# Altium integrated library Integrated Circuits.IntLib: 46 symbols
Pins are listed as number, name and electrical type; pins without a type are passive.

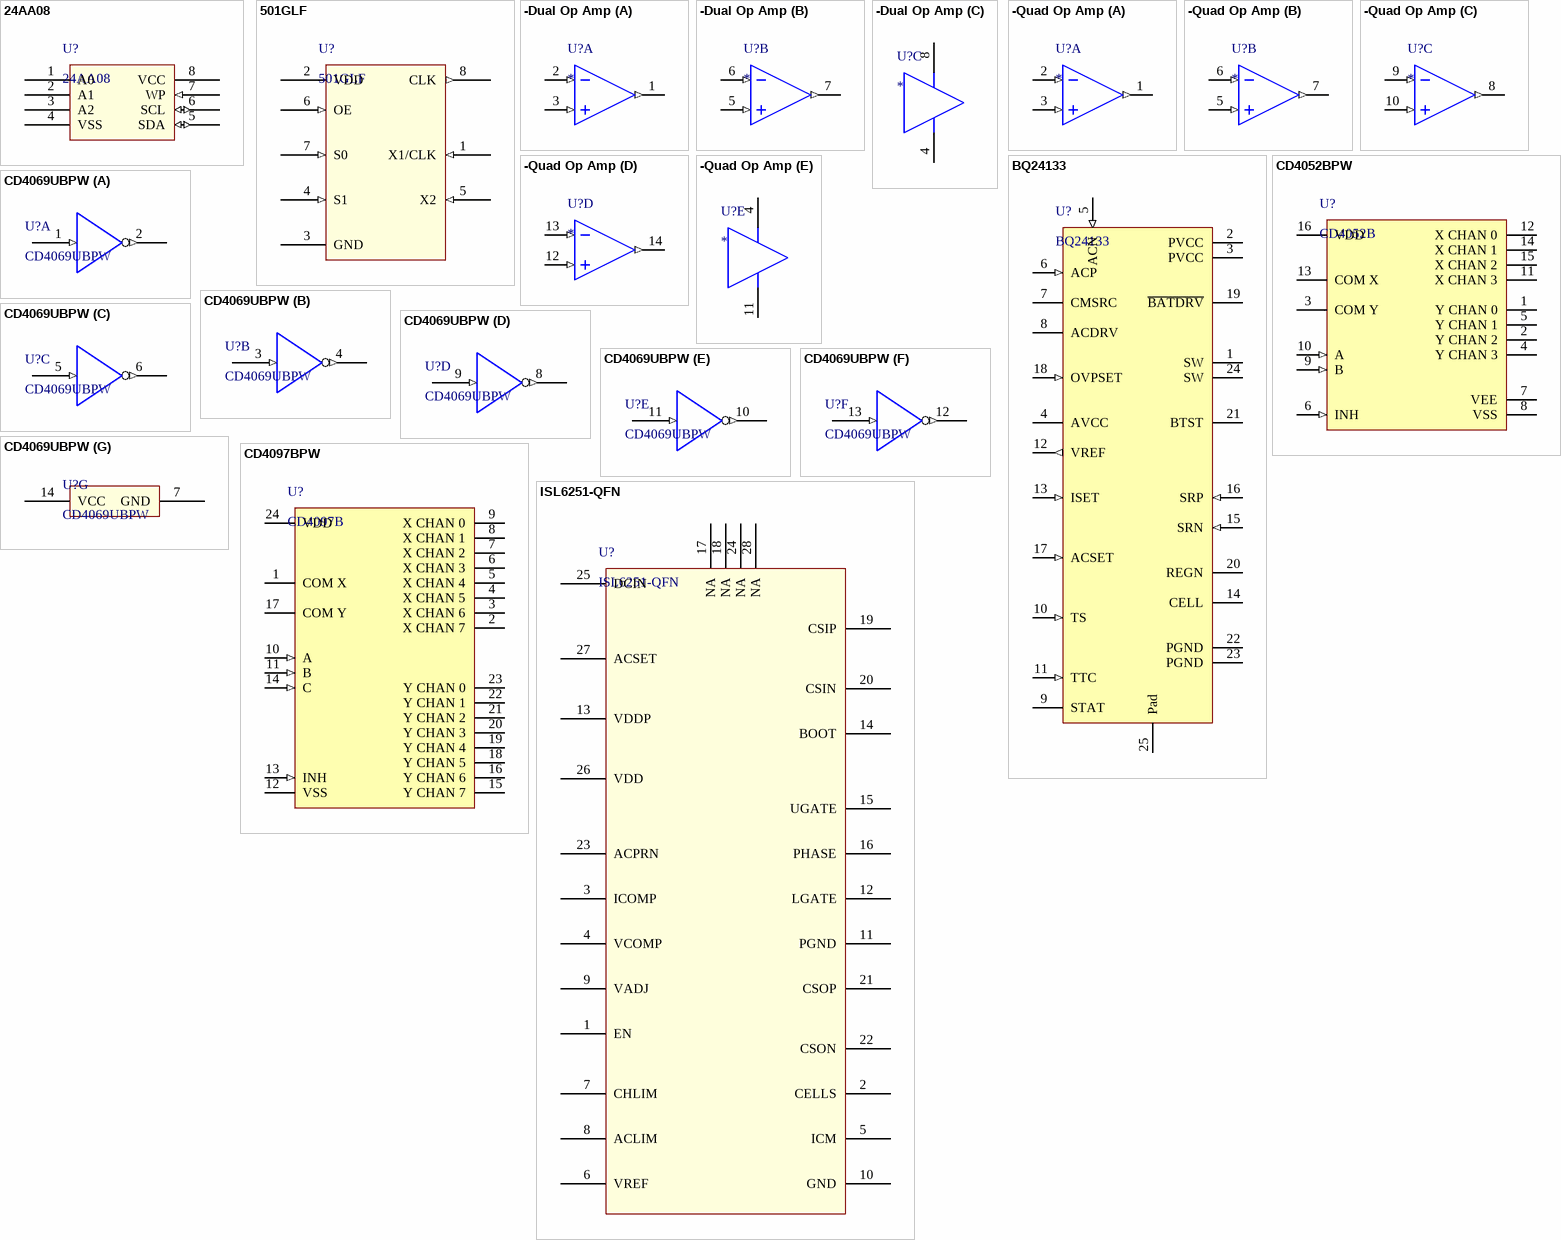
[diagram p0: symbols 24AA08 to ISL6251-QFN]

## 24AA08
designator U?
I2C EEPROM; Value: 24AA08; Supplier 1: Mouser; Supplier Part Number 1: 579-24AA08/SN
footprint SOIC127P600X175-8N (SOIC, 8-Leads, Body 4.95x3.90mm, Pitch 1.27mm, IPC Medium Density)
pins: 1 A0 "Not connected. Leave floating or tie to Vss or Vcc.", 2 A1 "Not connected. Leave floating or tie to Vss or Vcc.", 3 A2 "Not connected. Leave floating or tie to Vss or Vcc.", 4 VSS (power) "Ground", 5 SDA (io) "I2C Data", 6 SCL (io) "I2C Clock", 7 WP (in) "Write Protect Input. Tie to Vss for normal R/W", 8 VCC (power) "1.7V to 5.5V"

## 501GLF
designator U?
PLL Clock Multiplier; Value: 501GLF; Supplier 1: Mouser; Supplier Part Number 1: 972-501GLF
footprint SOIC127P600X175-8N (SOIC, 8-Leads, Body 4.95x3.90mm, Pitch 1.27mm, IPC Medium Density)
pins: 1 X1/CLK (in) "Crystal or clock input", 2 VDD (power) "+3.3V or 5V", 3 GND (power), 4 S1 (in) "Multiplier Select 1", 5 X2 (in) "Crystal. Leave unconnected for clock input", 6 OE (in) "Output Enable", 7 S0 (in) "Multiplier Select 0", 8 CLK (out) "Clock output"

## -Dual Op Amp
designator U?
Value: *
footprint SOIC127P600X175-8N (SOIC, 8-Leads, Body 4.95x3.90mm, Pitch 1.27mm, IPC Medium Density)
footprint SOP65P640X120-8N (TSOP, 8-Leads, Body 3.00x4.40mm, Pitch 0.65mm, IPC Medium Density)
part A pins: 1 OUT1 (out), 2 IN1- (in), 3 IN1+ (in)
part B pins: 5 IN2+ (in), 6 IN2- (in), 7 OUT2 (out)
part C pins: 4 VCC-, 8 VCC+

## -Quad Op Amp
designator U?
Value: *
footprint SOIC127P600X175-14N (SOIC, 14-Leads, Body 8.63x3.90mm, Pitch 1.27mm, IPC Medium Density)
footprint SOP65P640X120-14N (TSOP, 14-Leads, Body 5.00x4.40mm, Pitch 0.65mm, IPC Medium Density)
part A pins: 1 OUT1 (out), 2 IN1- (in), 3 IN1+ (in)
part B pins: 5 IN2+ (in), 6 IN2- (in), 7 OUT2 (out)
part C pins: 8 OUT3 (out), 9 IN3- (in), 10 IN3+ (in)
part D pins: 12 IN4+ (in), 13 IN4- (in), 14 OUT4 (out)
part E pins: 4 VCC+ (power), 11 VCC- (power)

## BQ24133
designator U?
Switch Mode Battery Charger; Value: BQ24133; Supplier 1: Mouser; Supplier Part Number 1: 595-BQ24133RGYR
footprint RGY24-3100X2050TP (QFN, 24-Leads, Body 5.5x3.5mm, Pitch 0.5mm, Thermal Pad 3.1x2.05mm, TI Recommended)
pins: 1 SW (power) "Switching node, charge current output inductor connection. Connect the 0.047-uF bootstrap capacitor from SW to BTST.", 2 PVCC (power) "Charger input voltage. Connect at least 10-uF ceramic capacitor from PVCC to PGND and place it as close as possible to IC", 3 PVCC (power) "Charger input voltage. Connect at least 10-uF ceramic capacitor from PVCC to PGND and place it as close as possible to IC", 4 AVCC (power) "IC power positive supply. Place a 1-uF ceramic capacitor from AVCC to AGND and place it as close as possible to IC. Place a 10-ohm resistor from input side to AVCC pin to filter the noise. For 5V input, a 5-ohm resistor is (See Datasheet)", 5 ACN (in) "Adapter current sense resistor negative input. A 0.1-uF ceramic capacitor is placed from ACN to ACP to provide differential-mode filtering. An optional 0.1-uF ceramic capacitor is placed from ACN pin to AGND for common-mode (See Datasheet)", 6 ACP (in) "Adapter current sense resistor positive input. A 0.1-uF ceramic capacitor is placed from ACN to ACP to provide differential-mode filtering. A 0.1-uF ceramic capacitor is placed from ACP pin to AGND for common-mode filtering.", 7 CMSRC "Connect to common source of N-channel ACFET and reverse blocking MOSFET (RBFET). Place 4-kohm resistor from CMSRC pin to the common source of ACFET and RBFET to control the turn-on speed. The resistance between ACDRV and (See Datasheet)", 8 ACDRV "AC adapter to system switch driver output. Connect to 4-kohm resistor then to the gate of the ACFET N-channel power MOSFET and the reverse conduction blocking N-channel power MOSFET. Connect both FETs as common-source. The (See Datasheet)", 9 STAT (hiz) "Open-drain charge status pin with 10-k ohm pull up to power rail. The STAT pin can be used to drive LED or communicate with the host processor. It indicates various charger operations: LOW when charge in progress. HIGH when (See Datasheet)", 10 TS (in) "Temperature qualification voltage input. Connect a negative temperature coefficient thermistor. Program the hot and cold temperature window with a resistor divider from VREF to TS to AGND. The temperature qualification (See Datasheet)", 11 TTC (in) "Safety Timer and termination control. Connect a capacitor from this node to AGND to set the fast charge safety timer(5.6min/nF). Pre-charge timer is internally fixed to 30 minutes. Pull the TTC to LOW to disable the charge (See Datasheet)", 12 VREF (out) "3.3V reference voltage output. Place a 1-uF ceramic capacitor from VREF to AGND pin close to the IC. This voltage could be used for programming ISET and ACSET and TS pins. It may also serve as the pull-up rail of STAT pin (See Datasheet)", 13 ISET (in) "Fast charge current set point. Use a voltage divider from VREF to ISET to AGND to set the fast charge current: ICHG=VISET/(20*RSR) The pre-charge and termination current is internally as one tenth of the charge current. The (See Datasheet)", 14 CELL "Cell selection pin. Set CELL pin LOW for 1-cell, Float for 2-cell (0.8V-1.8V), and HIGH for 3-cell with a fixed 4.2V per cell.", 15 SRN (in) "Charge current sense resistor negative input. A 0.1-uF ceramic capacitor is placed from SRN to SRP to provide differential-mode filtering. A 0.1-uF ceramic capacitor is placed from SRN pin to AGND for common-mode filtering.", 16 SRP (in) "Charge current sense resistor, positive input. A 0.1-uF ceramic capacitor is placed from SRN to SRP to provide differential-mode filtering. A 0.1-uF ceramic capacitor is placed from SRP pin to AGND for common-mode filtering.", 17 ACSET (in) "Input current set point. Use a voltage divider from VREF to ACSET to AGND to set this value:IDPM=VACSET/(20*RAC)", 18 OVPSET (in) "Valid input voltage set point. Use a voltage divider from input to OVPSET to AGND to set this voltage. The voltage above internal 1.6V reference indicates input over-voltage, and the voltage below internal 0.5V reference (See Datasheet)", 19 ~{BATDRV} "Battery discharge MOSFET gate driver output. Connect to 1kohm resistor to the gate of the BATFET P-channel power MOSFET. Connect the source of the BATFET to the system load voltage node. Connect the drain of the BATFET to (See Datasheet)", 20 REGN (power) "PWM low side driver positive 6V supply output. Connect a 1-uF ceramic capacitor from REGN to PGND pin, close to the IC. Generate high-side driver bootstrap voltage by integrated diode from REGN to BTST", 21 BTST (power) "PWM high side driver positive supply. Connect the 0.047-uF bootstrap capacitor from SW to BTST.", 22 PGND (power) "Power ground. Ground connection for high-current power converter node. On PCB layout, connect directly to ground connection of input and output capacitors of the charger. Only connect to AGND through the Thermal Pad (See Datasheet)", 23 PGND (power) "Power ground. Ground connection for high-current power converter node. On PCB layout, connect directly to ground connection of input and output capacitors of the charger. Only connect to AGND through the Thermal Pad (See Datasheet)", 24 SW (power) "Switching node, charge current output inductor connection. Connect the 0.047-uF bootstrap capacitor from SW to BTST.", 25 Pad (power) "Exposed pad beneath the IC. Always solder Thermal Pad to the board, and have vias on the Thermal  Pad plane star-connecting to AGND and ground plane for high-current power converter. It dissipates the heat from the IC."

## CD4052BPW
designator U?, comment CD4052B
2x4:1 Analog Mulitplexer/Demultiplexer; Value: CD4052B; Supplier 1: Mouser; Supplier Part Number 1: 595-CD4052BPWR
footprint SOP65P640X120-16N (TSOP, 16-Leads, Body 5.00x4.40mm, Pitch 0.65mm, IPC Medium Density)
pins: 1 Y CHAN 0, 2 Y CHAN 2, 3 COM Y, 4 Y CHAN 3, 5 Y CHAN 1, 6 INH (in), 7 VEE (power), 8 VSS (power), 9 B (in), 10 A (in), 11 X CHAN 3, 12 X CHAN 0, 13 COM X, 14 X CHAN 1, 15 X CHAN 2, 16 VDD (power)

## CD4069UBPW
designator U?
CMOS Hex Inverter; Value: CD4069UBPW; Supplier 1: Mouser; Supplier Part Number 1: 595-CD4069UBPWR
footprint SOP65P640X120-14N (TSOP, 14-Leads, Body 5.00x4.40mm, Pitch 0.65mm, IPC Medium Density)
part A pins: 1 (in), 2 (out)
part B pins: 3 (in), 4 (out)
part C pins: 5 (in), 6 (out)
part D pins: 8 (out), 9 (in)
part E pins: 10 (out), 11 (in)
part F pins: 12 (out), 13 (in)
part G pins: 7 GND (power), 14 VCC (power)

## CD4097BPW
designator U?, comment CD4097B
2x8:1 Analog Mulitplexer/Demultiplexer; Value: CD4097B; Supplier 1: Mouser; Supplier Part Number 1: 595-CD4097BPW
footprint SOP65P640X120-24N (TSOP, 24-Leads, Body 7.80x4.40mm, Pitch 0.65mm, IPC Medium Density)
pins: 1 COM X, 2 X CHAN 7, 3 X CHAN 6, 4 X CHAN 5, 5 X CHAN 4, 6 X CHAN 3, 7 X CHAN 2, 8 X CHAN 1, 9 X CHAN 0, 10 A (in), 11 B (in), 12 VSS (power), 13 INH (in), 14 C (in), 15 Y CHAN 7, 16 Y CHAN 6, 17 COM Y, 18 Y CHAN 5, 19 Y CHAN 4, 20 Y CHAN 3, 21 Y CHAN 2, 22 Y CHAN 1, 23 Y CHAN 0, 24 VDD (power)

## ISL6251-QFN
designator U?
Multi-Chemistry Battery Charger Controller; Value: ISL6251-QFN
pins: 1 EN, 2 CELLS, 3 ICOMP, 4 VCOMP, 5 ICM, 6 VREF, 7 CHLIM, 8 ACLIM, 9 VADJ, 10 GND, 11 PGND, 12 LGATE, 13 VDDP, 14 BOOT, 15 UGATE, 16 PHASE, 17 NA (hiz), 18 NA (hiz), 19 CSIP, 20 CSIN, 21 CSOP, 22 CSON, 23 ACPRN, 24 NA (hiz), 25 DCIN, 26 VDD, 27 ACSET, 28 NA (hiz)

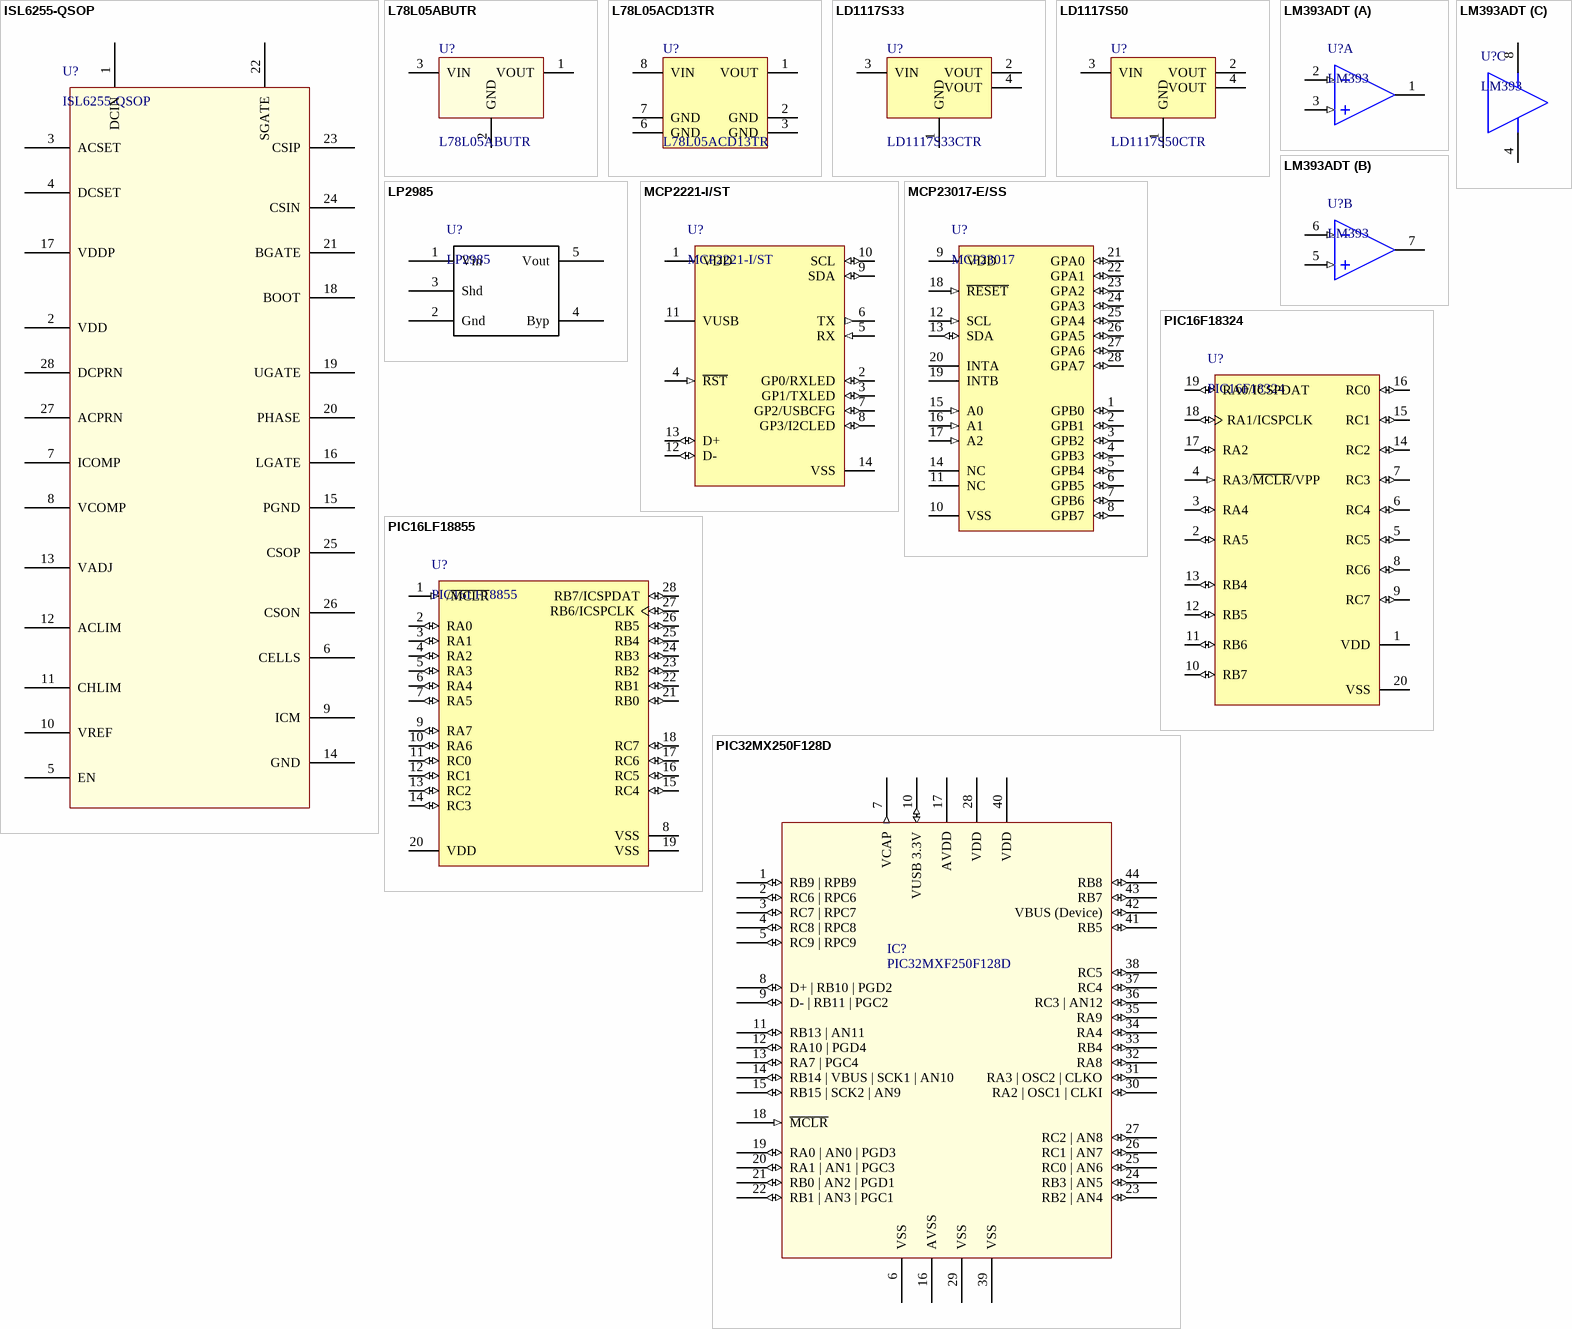
[diagram p1: symbols ISL6255-QSOP to PIC32MX250F128D]

## ISL6255-QSOP
designator U?
Multi-Chemistry Battery Charger Controller; Value: ISL6255-QSOP
pins: 1 DCIN, 2 VDD, 3 ACSET, 4 DCSET, 5 EN, 6 CELLS, 7 ICOMP, 8 VCOMP, 9 ICM, 10 VREF, 11 CHLIM, 12 ACLIM, 13 VADJ, 14 GND, 15 PGND, 16 LGATE, 17 VDDP, 18 BOOT, 19 UGATE, 20 PHASE, 21 BGATE, 22 SGATE, 23 CSIP, 24 CSIN, 25 CSOP, 26 CSON, 27 ACPRN, 28 DCPRN

## L78L05ABUTR
designator U?
Fixed 5V Regulator, 500mA, DPAK; Value: L78L05ABUTR; Supplier 1: Mouser; Supplier Part Number 1: 511-L78L05ABU
footprint SOT89-3 (SOT89, 3-Leads, Body 4.50x2.45mm, Pitch 1.50mm, Lead Span 4.1mm, IPC Medium Density)
pins: 1 VOUT (power), 2 GND, 3 VIN (power)

## L78L05ACD13TR
designator U?
Fixed 5V Regulator, 100mA, SO-8; Value: L78L05ACD13TR; Supplier 1: Mouser; Supplier Part Number 1: 511-L78L05ACD-TR
footprint SOIC127P600X175-8N (SOIC, 8-Leads, Body 4.95x3.90mm, Pitch 1.27mm, IPC Medium Density)
pins: 1 VOUT (power), 2 GND (power), 3 GND (power), 4 NC hidden, 5 NC hidden, 6 GND (power), 7 GND (power), 8 VIN (power)

## LD1117S33
designator U?, comment LD1117S33CTR
Fixed 3.3V LDO, 0.8A; Supplier 1: Mouser; Supplier Part Number 1: 511-LD1117S33C; Value: LD1117S33CTR
footprint SOT223-4 (SOT223, 4-Leads, Body 6.5x3.5mm, Pitch 2.3mm, Lead Span 7mm, IPC Medium Density)
pins: 1 GND (power), 2 VOUT (power), 3 VIN (power), 4 VOUT (power)

## LD1117S50
designator U?, comment LD1117S50CTR
Fixed 5V LDO, 0.8A; Supplier 1: Mouser; Supplier Part Number 1: 511-LD1117S50C-TR; Value: LD1117S50CTR
footprint SOT223-4 (SOT223, 4-Leads, Body 6.5x3.5mm, Pitch 2.3mm, Lead Span 7mm, IPC Medium Density)
pins: 1 GND (power), 2 VOUT (power), 3 VIN (power), 4 VOUT (power)

## LM393ADT
designator U?, comment LM393
Low power, dual comparator, SOIC-8; Value: LM393; Supplier 1: Mouser; Supplier Part Number 1: 511-LM393ADT
footprint SOIC127P600X175-8N (SOIC, 8-Leads, Body 4.95x3.90mm, Pitch 1.27mm, IPC Medium Density)
part A pins: 1 OUT1 (oc), 2 IN1- (in), 3 IN1+ (in)
part B pins: 5 IN2+ (in), 6 IN2- (in), 7 OUT2 (oc)
part C pins: 4 VCC- (power), 8 VCC+ (power)

## LP2985
designator U?
LDP Voltage Regulator, 2.5V to 16V Input, 150mA; Value: LP2985
footprint SOT23-5pin (SOT23, 5-Leads, Body 2.90x2.80mm, Pitch 0.95mm, IPC Medium Density)
pins: 1 Vin, 2 Gnd, 3 Shd, 4 Byp, 5 Vout

## MCP2221-I/ST
designator U?
USB to UART/I2C Converter, 14 Pin, TSSOP; Value: MCP2221-I/ST; Supplier 1: Mouser; Supplier Part Number 1: 579-MCP2221-I/ST
footprint SOP65P640X120-14N (TSOP, 14-Leads, Body 5.00x4.40mm, Pitch 0.65mm, IPC Medium Density)
pins: 1 VDD (power), 2 GP0/RXLED (io), 3 GP1/TXLED (io), 4 ~{RST} (in), 5 RX (in), 6 TX (out), 7 GP2/USBCFG (io), 8 GP3/I2CLED (io), 9 SDA (io), 10 SCL (io), 11 VUSB (power), 12 D- (io), 13 D+ (io), 14 VSS (power)

## MCP23017-E/SS
designator U?, comment MCP23017
16-bit I2C Port Expander; Value: MCP23017; Supplier 1: Mouser; Supplier Part Number 1: 579-MCP23017T-E/SS
footprint SOP65P780X200-28N (SOP, 28-Leads, Body 10.20x5.30mm, Pitch 0.65mm, IPC Medium Density)
pins: 1 GPB0 (io), 2 GPB1 (io), 3 GPB2 (io), 4 GPB3 (io), 5 GPB4 (io), 6 GPB5 (io), 7 GPB6 (io), 8 GPB7 (io), 9 VDD (power), 10 VSS (power), 11 NC, 12 SCL (in), 13 SDA (io), 14 NC, 15 A0 (in), 16 A1 (in), 17 A2 (in), 18 ~{RESET} (in), 19 INTB (oc), 20 INTA (oc), 21 GPA0 (io), 22 GPA1 (io), 23 GPA2 (io), 24 GPA3 (io), 25 GPA4 (io), 26 GPA5 (io), 27 GPA6 (io), 28 GPA7 (io)

## PIC16F18324
designator U?
8-bit PIC Microcontroller, 20-Pin; Value: PIC16F18324
footprint SOP65P780X200-20N (SOP, 20-Leads, Body 7.20x5.30mm, Pitch 0.65mm, IPC Medium Density)
pins: 1 VDD (power) "Positive supply.", 2 RA5 (io), 3 RA4 (io), 4 RA3/~{MCLR}/VPP (in), 5 RC5 (io), 6 RC4 (io), 7 RC3 (io), 8 RC6 (io), 9 RC7 (io), 10 RB7 (io), 11 RB6 (io), 12 RB5 (io), 13 RB4 (io), 14 RC2 (io), 15 RC1 (io), 16 RC0 (io), 17 RA2 (io), 18 RA1/ICSPCLK (io), 19 RA0/ICSPDAT (io), 20 VSS (power) "Ground reference."

## PIC16LF18855
designator U?
8-bit PIC Microcontroller, 28-Pin; Value: PIC16LF18855; Supplier 1: Mouser; Supplier Part Number 1: 579-PIC16LF18855I/SS
footprint SOP65P780X200-28N (SOP, 28-Leads, Body 10.20x5.30mm, Pitch 0.65mm, IPC Medium Density)
pins: 1 /~{MCLR} (in), 2 RA0 (io), 3 RA1 (io), 4 RA2 (io), 5 RA3 (io), 6 RA4 (io), 7 RA5 (io), 8 VSS (power) "Ground reference.", 9 RA7 (io), 10 RA6 (io), 11 RC0 (io), 12 RC1 (io), 13 RC2 (io), 14 RC3 (io), 15 RC4 (io), 16 RC5 (io), 17 RC6 (io), 18 RC7 (io), 19 VSS (power) "Ground reference.", 20 VDD (power) "Positive supply.", 21 RB0 (io), 22 RB1 (io), 23 RB2 (io), 24 RB3 (io), 25 RB4 (io), 26 RB5 (io), 27 RB6/ICSPCLK (io), 28 RB7/ICSPDAT (io)

## PIC32MX250F128D
designator IC?, comment PIC32MXF250F128D
32-bit PIC Microcontroller, 44-Pin; Value: PIC32MXF250F128D
footprint TQFP-44 (0.8 mm pitch)
pins: 1 RB9 | RPB9 (io), 2 RC6 | RPC6 (io), 3 RC7 | RPC7 (io), 4 RC8 | RPC8 (io), 5 RC9 | RPC9 (io), 6 VSS (power), 7 VCAP (out), 8 D+ | RB10 | PGD2 (io), 9 D- | RB11 | PGC2 (io), 10 VUSB 3.3V (io), 11 RB13 | AN11 (io), 12 RA10 | PGD4 (io), 13 RA7 | PGC4 (io), 14 RB14 | VBUS | SCK1 | AN10 (io), 15 RB15 | SCK2 | AN9 (io), 16 AVSS (power), 17 AVDD (power), 18 ~{MCLR} (in), 19 RA0 | AN0 | PGD3 (io), 20 RA1 | AN1 | PGC3 (io), 21 RB0 | AN2 | PGD1 (io), 22 RB1 | AN3 | PGC1 (io), 23 RB2 | AN4 (io), 24 RB3 | AN5 (io), 25 RC0 | AN6 (io), 26 RC1 | AN7 (io), 27 RC2 | AN8 (io), 28 VDD (power), 29 VSS (power), 30 RA2 | OSC1 | CLKI (io), 31 RA3 | OSC2 | CLKO (io), 32 RA8 (io), 33 RB4 (io), 34 RA4 (io), 35 RA9 (io), 36 RC3 | AN12 (io), 37 RC4 (io), 38 RC5 (io), 39 VSS (power), 40 VDD (power), 41 RB5 (io), 42 VBUS (Device) (io), 43 RB7 (io), 44 RB8 (io)

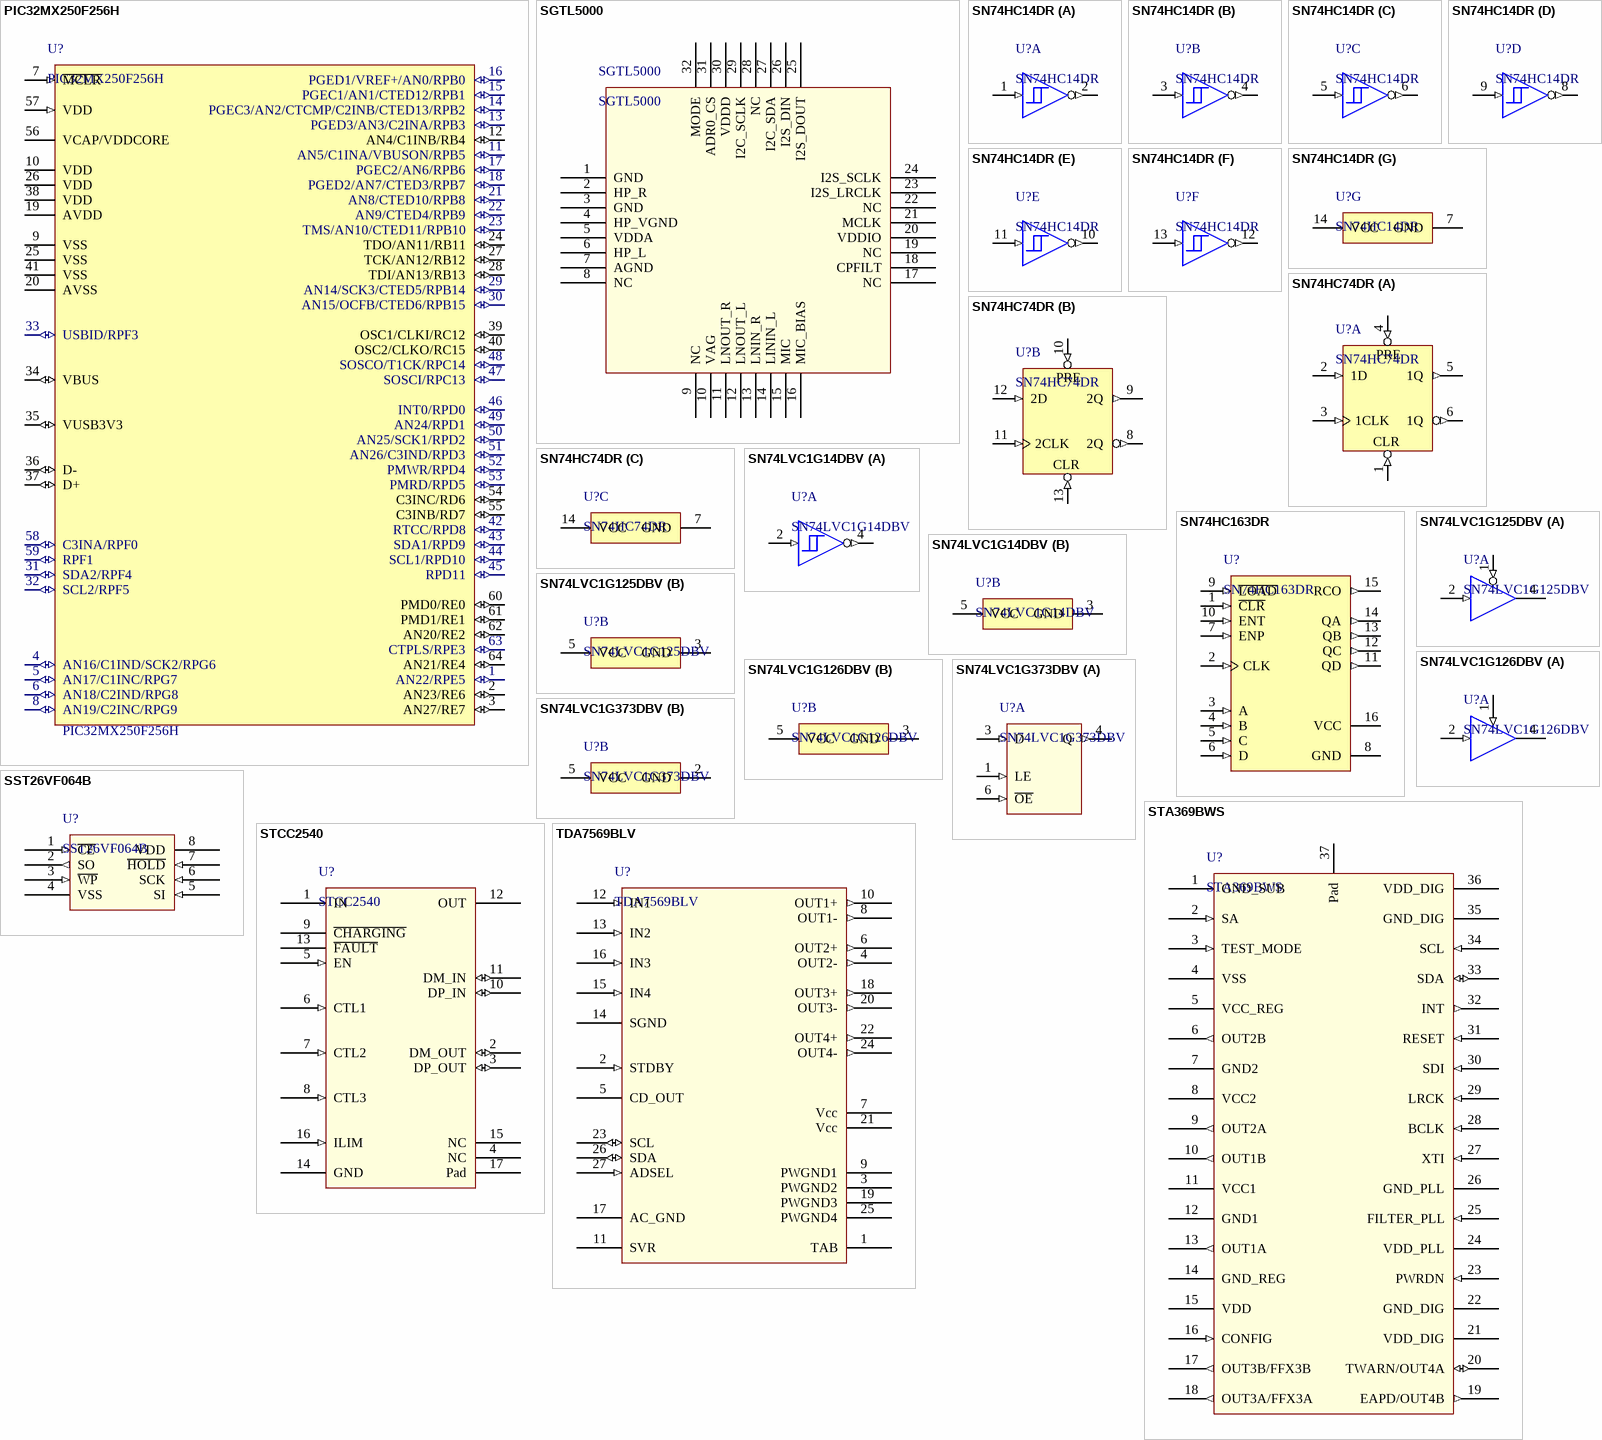
[diagram p2: symbols PIC32MX250F256H to TDA7569BLV]

## PIC32MX250F256H
designator U?
32-bit PIC Microcontroller, 64-pin; Value: PIC32MX250F256H
footprint QFP50P1200X1200X120-64N (Thin QFP, 64-Leads, Body 10x10mm, Pitch 0.5mm, IPC Medium Density)
pins: 1 AN22/RPE5 (io), 2 AN23/RE6 (io), 3 AN27/RE7 (io), 4 AN16/C1IND/SCK2/RPG6 (io), 5 AN17/C1INC/RPG7 (io), 6 AN18/C2IND/RPG8 (io), 7 ~{MCLR} (in), 8 AN19/C2INC/RPG9 (io), 9 VSS (power), 10 VDD (power), 11 AN5/C1INA/VBUSON/RPB5 (io), 12 AN4/C1INB/RB4 (io), 13 PGED3/AN3/C2INA/RPB3 (io), 14 PGEC3/AN2/CTCMP/C2INB/CTED13/RPB2 (io), 15 PGEC1/AN1/CTED12/RPB1 (io), 16 PGED1/VREF+/AN0/RPB0 (io), 17 PGEC2/AN6/RPB6 (io), 18 PGED2/AN7/CTED3/RPB7 (io), 19 AVDD (power), 20 AVSS (power), 21 AN8/CTED10/RPB8 (io), 22 AN9/CTED4/RPB9 (io), 23 TMS/AN10/CTED11/RPB10 (io), 24 TDO/AN11/RB11 (io), 25 VSS (power), 26 VDD (power), 27 TCK/AN12/RB12 (io), 28 TDI/AN13/RB13 (io), 29 AN14/SCK3/CTED5/RPB14 (io), 30 AN15/OCFB/CTED6/RPB15 (io), 31 SDA2/RPF4 (io), 32 SCL2/RPF5 (io), 33 USBID/RPF3 (io), 34 VBUS (io), 35 VUSB3V3 (io), 36 D- (io), 37 D+ (io), 38 VDD (power), 39 OSC1/CLKI/RC12 (io), 40 OSC2/CLKO/RC15 (io), 41 VSS (power), 42 RTCC/RPD8 (io), 43 SDA1/RPD9 (io), 44 SCL1/RPD10 (io), 45 RPD11 (io), 46 INT0/RPD0 (io), 47 SOSCI/RPC13 (io), 48 SOSCO/T1CK/RPC14 (io), 49 AN24/RPD1 (io), 50 AN25/SCK1/RPD2 (io), 51 AN26/C3IND/RPD3 (io), 52 PMWR/RPD4 (io), 53 PMRD/RPD5 (io), 54 C3INC/RD6 (io), 55 C3INB/RD7 (io), 56 VCAP/VDDCORE (power), 57 VDD (in), 58 C3INA/RPF0 (io), 59 RPF1 (io), 60 PMD0/RE0 (io), 61 PMD1/RE1 (io), 62 AN20/RE2 (io), 63 CTPLS/RPE3 (io), 64 AN21/RE4 (io)

## SGTL5000
designator SGTL5000
Stereo Codec with Headphone Amp; Value: SGTL5000
footprint QFN50P485X485X90_HS-33N (QFN, 32-Leads, Body 4.85x4.85mm, Pitch 0.50mm, Thermal Pad 3.40x3.40mm, IPC Medium Density)
pins: 1 GND, 2 HP_R, 3 GND, 4 HP_VGND, 5 VDDA, 6 HP_L, 7 AGND, 8 NC, 9 NC, 10 VAG, 11 LNOUT_R, 12 LNOUT_L, 13 LNIN_R, 14 LININ_L, 15 MIC, 16 MIC_BIAS, 17 NC, 18 CPFILT, 19 NC, 20 VDDIO, 21 MCLK, 22 NC, 23 I2S_LRCLK, 24 I2S_SCLK, 25 I2S_DOUT, 26 I2S_DIN, 27 I2C_SDA, 28 NC, 29 I2C_SCLK, 30 VDDD, 31 ADR0_CS, 32 MODE

## SN74HC14DR
designator U?
Hex Inverting Schmitt Trigger; Value: SN74HC14DR; Supplier 1: Mouser; Supplier Part Number 1: 595-SN74HC14DR
footprint SOIC127P600X175-14N (SOIC, 14-Leads, Body 8.63x3.90mm, Pitch 1.27mm, IPC Medium Density)
part A pins: 1 1A (in) "Input 1A", 2 ~{1Y} (out) "Output 1Y"
part B pins: 3 2A (in) "Input 2A", 4 ~{2Y} (out) "Output 2Y"
part C pins: 5 3A (in) "Input 3A", 6 ~{3Y} (out) "Output 3Y"
part D pins: 8 ~{4Y} (out) "Output 4Y", 9 4A (in) "Input 4A"
part E pins: 10 ~{5Y} (out) "Output 5Y", 11 5A (in) "Input 5A"
part F pins: 12 ~{6Y} (out) "Output 6Y", 13 6A (in) "Input 6A"
part G pins: 7 GND (power) "Ground Pin", 14 VCC (power) "Power Pin"

## SN74HC74DR
designator U?
Dual D-Type Flip Flop, Positive Edge; Value: SN74HC74DR; Supplier 1: Mouser; Supplier Part Number 1: 595-SN74HC74D
footprint SOIC127P600X175-14N (SOIC, 14-Leads, Body 8.63x3.90mm, Pitch 1.27mm, IPC Medium Density)
part A pins: 1 1~{CLR} (in), 2 1D (in), 3 1CLK (in), 4 1~{PRE} (in), 5 1Q (out), 6 1Q (out)
part B pins: 8 2Q (out), 9 2Q (out), 10 2~{PRE} (in), 11 2CLK (in), 12 2D (in), 13 2~{CLR} (in)
part C pins: 7 GND (power), 14 VCC (power)
part A text: PRE; CLR
part B text: PRE; CLR

## SN74HC163DR
designator U?
4-Bit Synchronous Counter; Value: SN74HC163DR; Supplier 1: Mouser; Supplier Part Number 1: 595-SN74HC163DR
footprint SOIC127P600X175-16N (SOIC, 16-Leads, Body 9.90x3.90mm, Pitch 1.27mm, IPC Medium Density)
pins: 1 ~{CLR} (in), 2 CLK (in), 3 A (in), 4 B (in), 5 C (in), 6 D (in), 7 ENP (in), 8 GND (power), 9 ~{LOAD} (in), 10 ENT (in), 11 QD (out), 12 QC (out), 13 QB (out), 14 QA (out), 15 RCO (out), 16 VCC (power)

## SN74LVC1G14DBV
designator U?
Single Inverting Schmitt Trigger; Supplier 1: Mouser; Supplier Part Number 1: 595-SN74LVC1G14DBVR; Value: SN74LVC1G14DBV
footprint SOT23-5 (SOT23, 5-Leads, Body 2.90x2.80mm, Pitch 0.95mm, IPC Medium Density)
part A pins: 2 1A (in) "Input 1A", 4 ~{1Y} (out) "Output 1Y"
part B pins: 3 GND (power) "Ground Pin", 5 VCC (power) "Power Pin"

## SN74LVC1G125DBV
designator U?
Single Tri-State Buffer, Active Low; Value: SN74LVC1G125DBV; Supplier 1: Mouser; Supplier Part Number 1: 595-SN74LVC1G125DBVR
footprint SOT23-5 (SOT23, 5-Leads, Body 2.90x2.80mm, Pitch 0.95mm, IPC Medium Density)
part A pins: 1 ~{OE} (in), 2 A (in), 4 Y (hiz)
part B pins: 3 GND (power), 5 VCC (power)

## SN74LVC1G126DBV
designator U?
Single Tri-State Buffer, Active High; Value: SN74LVC1G126DBV; Supplier 1: Mouser; Supplier Part Number 1: 595-SN74LVC1G126DBVR
footprint SOT23-5 (SOT23, 5-Leads, Body 2.90x2.80mm, Pitch 0.95mm, IPC Medium Density)
part A pins: 1 ~{OE} (in), 2 A (in), 4 Y (hiz)
part B pins: 3 GND (power), 5 VCC (power)

## SN74LVC1G373DBV
designator U?
Single D-Latch with Tri-State Output; Supplier 1: Mouser; Supplier Part Number 1: 595-SN74LVC1G373DBVR; Value: SN74LVC1G373DBV
footprint SOT23-6 (SOT23, 6-Leads, Body 2.90x2.80mm, Pitch 0.95mm, IPC Medium Density)
part A pins: 1 LE (in) "Latch Enable, Active High", 3 D (in) "Data Input", 4 Q (out) "Output Q", 6 ~{OE} (in) "Output Enable"
part B pins: 2 GND (power), 5 VCC (power)

## SST26VF064B
designator U?
SPI Flash Memory; Value: SST26VF064B
footprint SOIC127P780X200-8N (SOIC, 8-Leads, Body 5.29x5.29mm, Pitch 1.27mm, IPC Medium Density)
pins: 1 ~{CE} (in) "Chip Enable", 2 SO (out) "Data Out", 3 ~{WP} (in) "Write Protect", 4 VSS (power) "Ground", 5 SI (in) "Data In", 6 SCK (in) "Clock", 7 ~{HOLD} (in) "Temporarily stops SPI. Tie high when not in use.", 8 VDD (power)

## STA369BWS
designator U?
2.1 Channel DSP plus Amplifier; Value: STA369BWS
footprint STA369BWSTR (IC AUDIO SYS DGTL 2.1CH PWRSSO36)
pins: 1 GND_SUB (power), 2 SA (in), 3 TEST_MODE (in), 4 VSS (power), 5 VCC_REG (power), 6 OUT2B (out), 7 GND2 (power), 8 VCC2 (power), 9 OUT2A (out), 10 OUT1B (out), 11 VCC1 (power), 12 GND1 (power), 13 OUT1A (out), 14 GND_REG (power), 15 VDD (power), 16 CONFIG (in), 17 OUT3B/FFX3B (out), 18 OUT3A/FFX3A (out), 19 EAPD/OUT4B (out), 20 TWARN/OUT4A (io), 21 VDD_DIG (power), 22 GND_DIG (power), 23 PWRDN (in), 24 VDD_PLL (power), 25 FILTER_PLL (in), 26 GND_PLL (power), 27 XTI (in), 28 BCLK (in), 29 LRCK (in), 30 SDI (in), 31 RESET (in), 32 INT (out), 33 SDA (io), 34 SCL (in), 35 GND_DIG (power), 36 VDD_DIG (power), 37 Pad (power)

## STCC2540
designator U?
USB Charging Controller with Integrated Switch; Value: STCC2540; Supplier 1: Mouser; Supplier Part Number 1: 511-STCC2540IQTR
footprint STCC2540IQTR (16-WFQFN Exposed Pad)
pins: 1 IN (power), 2 DM_OUT (io), 3 DP_OUT (io), 4 NC, 5 EN (in), 6 CTL1 (in), 7 CTL2 (in), 8 CTL3 (in), 9 ~{CHARGING} (oc), 10 DP_IN (io), 11 DM_IN (io), 12 OUT (power), 13 ~{FAULT} (oc), 14 GND (power), 15 NC, 16 ILIM (in), 17 Pad (power)

## TDA7569BLV
designator U?
4 x 50 W power amplifier with start-stop profile; Value: TDA7569BLV; Supplier 1: Mouser; Supplier Part Number 1: 511-TDA7569BLV
footprint FLEXIWATT-27 (ST Flexiwatt,Vertical, 27-Pin, Formed Leads)
pins: 1 TAB, 2 STDBY (in), 3 PWGND2 (power), 4 OUT2- (out), 5 CD_OUT (oc), 6 OUT2+ (out), 7 Vcc (power), 8 OUT1- (out), 9 PWGND1, 10 OUT1+ (out), 11 SVR (power), 12 IN1 (in), 13 IN2 (in), 14 SGND (power), 15 IN4 (in), 16 IN3 (in), 17 AC_GND (power), 18 OUT3+ (out), 19 PWGND3 (power), 20 OUT3- (out), 21 Vcc (power), 22 OUT4+ (out), 23 SCL (io) "I2C Clock", 24 OUT4- (out), 25 PWGND4 (power), 26 SDA (io) "I2C Data", 27 ADSEL (in) "Address selector/I2C bus disable"

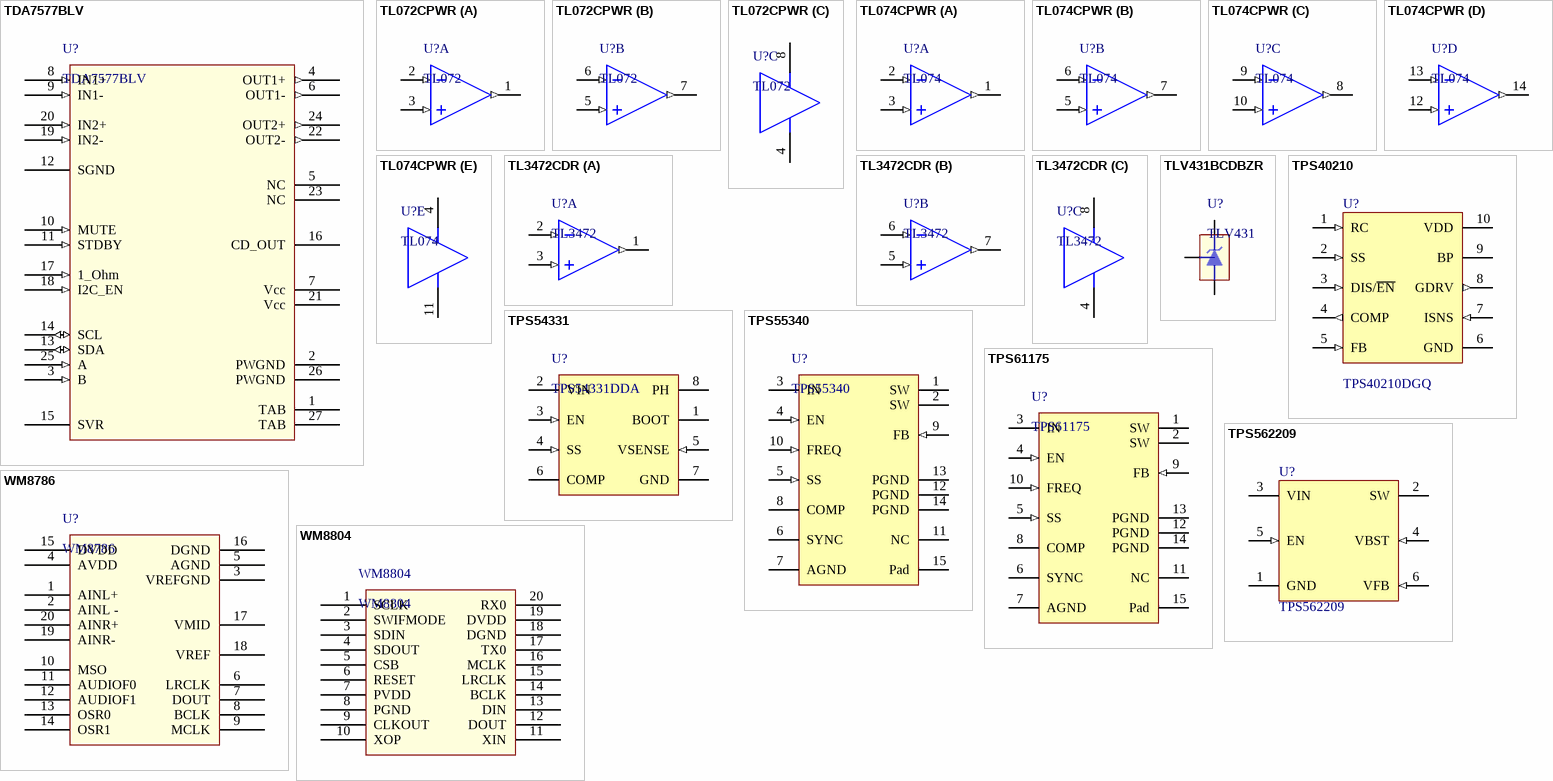
[diagram p3: symbols TDA7577BLV to WM8804]

## TDA7577BLV
designator U?
2 x 75 W dual power amplifier with start-stop profile; Value: TDA7577BLV; Supplier 1: Mouser; Supplier Part Number 1: 511-TDA7577BLV
footprint FLEXIWATT-27 (ST Flexiwatt,Vertical, 27-Pin, Formed Leads)
pins: 1 TAB, 2 PWGND (power), 3 B (in) "I2C Address", 4 OUT1+ (out), 5 NC, 6 OUT1- (out), 7 Vcc (power), 8 IN1+ (in), 9 IN1- (in), 10 MUTE (in), 11 STDBY (in), 12 SGND (power), 13 SDA (io) "I2C Data", 14 SCL (io) "I2C Clock", 15 SVR (power), 16 CD_OUT (oc), 17 1_Ohm (in), 18 I2C_EN (in), 19 IN2- (in), 20 IN2+ (in), 21 Vcc (power), 22 OUT2- (out), 23 NC, 24 OUT2+ (out), 25 A (in) "I2C Address", 26 PWGND (power), 27 TAB

## TL072CPWR
designator U?, comment TL072
Dual Low-Noise JFET-Input Op Amp, TSSOP; Value: TL072; Supplier 1: Mouser; Supplier Part Number 1: 595-TL072CPWR
footprint SOP65P640X120-8N (TSOP, 8-Leads, Body 3.00x4.40mm, Pitch 0.65mm, IPC Medium Density)
part A pins: 1 OUT1 (out), 2 IN1- (in), 3 IN1+ (in)
part B pins: 5 IN2+ (in), 6 IN2- (in), 7 OUT2 (out)
part C pins: 4 VCC-, 8 VCC+

## TL074CPWR
designator U?, comment TL074
Quad Low-Noise JFET-Input Op Amp, TSSOP; Value: TL074; Supplier 1: Mouser; Supplier Part Number 1: 595-TL074CPWR
footprint SOP65P640X120-14N (TSOP, 14-Leads, Body 5.00x4.40mm, Pitch 0.65mm, IPC Medium Density)
part A pins: 1 OUT1 (out), 2 IN1- (in), 3 IN1+ (in)
part B pins: 5 IN2+ (in), 6 IN2- (in), 7 OUT2 (out)
part C pins: 8 OUT3 (out), 9 IN3- (in), 10 IN3+ (in)
part D pins: 12 IN4+ (in), 13 IN4- (in), 14 OUT4 (out)
part E pins: 4 VCC+ (power), 11 VCC- (power)

## TL3472CDR
designator U?, comment TL3472
High Slew Rate, Single Supply Op Amp; Value: TL3472; Supplier 1: Mouser; Supplier Part Number 1: 595-TL3472CDR
footprint SOIC127P600X175-8N (SOIC, 8-Leads, Body 4.95x3.90mm, Pitch 1.27mm, IPC Medium Density)
part A pins: 1 OUT1 (out), 2 IN1- (in), 3 IN1+ (in)
part B pins: 5 IN2+ (in), 6 IN2- (in), 7 OUT2 (out)
part C pins: 4 VCC-, 8 VCC+

## TLV431BCDBZR
designator U?, comment TLV431
Adjustable Precision Shunt Reference; Value: TLV431
footprint SOT23-3 (SOT23, 3-Leads, Body 2.90x2.35mm, Pitch 0.95mm, IPC Medium Density)
pins: 1 REF, 2 K, 3 A

## TPS40210
designator U?, comment TPS40210DGQ
Current Mode Boost Controller, 4.5 to 52 V, 10-pin; Value: TPS40210DGQ; Supplier 1: Mouser; Supplier Part Number 1: 595-TPS40210DGQR
footprint DGQ10-1675X1445TP_L (TSSOP, 10-Leads, Body 3x3mm, Pitch 0.5mm, Thermal Pad 1.88x1.57mm, IPC High Density)
pins: 1 RC (in) "Switching frequency setting pin. Connect a resistor from RC pin to VDD of the IC power supply and a capacitor from RC to GND.", 2 SS (in) "Soft-start time programming pin. Connect capacitor from SS pin to GND to program converter soft-start time. This pin also functions as a timeout timer when the power supply is in an overcurrent condition.", 3 DIS/~{EN} (in) "Disable pin. Pulling this pin high, places the part into a shutdown mode. Shutdown mode is characterized by a very low quiescent current. While in shutdown mode, the functionality of all blocks is disabled and the BP (See Datasheet)", 4 COMP (out) "Error amplifier output. Connect control loop compensation network between COMP pin and FB pin.", 5 FB (in) "Error amplifier inverting input. Connect a voltage divider from the output to this pin to set output voltage. Compensation network is connected between this pin and COMP.", 6 GND (power) "Device ground.", 7 ISNS (in) "Current sense pin. Connect an external current sensing resistor between this pin and GND. The voltage on this pin is used to provide current feedback in the control loop and detect an overcurrent condition. An overcurrent (See Datasheet)", 8 GDRV (out) "Connect the gate of the power N channel MOSFET to this pin.", 9 BP (power) "Regulator output pin. Connect a 1.0-uF bypass capacitor from this pin to GND.", 10 VDD (power) "System input voltage. Connect a local bypass capacitor from this pin to GND. Depending on the amount of required slope compensation, this pin can be connected to the converter output. See Application Information section for (See Datasheet)"

## TPS54331
designator U?, comment TPS54331DDA
3A Buck Step Down Regulator with 3.5 to 28 V Input and 0.8 to 25 V Output; Value: TPS54331DDA; Supplier 1: Mouser; Supplier Part Number 1: 595-TPS54331DDAR
footprint SOIC127P600X265_HS-9N (SOIC, 8-Leads, Body 4.90x3.90mm, Pitch 1.27mm, Thermal Pad 4.89.2x2.94.2mm, IPC Medium Density)
pins: 1 BOOT "A 0.1 uF bootstrap capacitor is required between BOOT and PH. If the voltage on this capacitor falls below the minimum requirement, the high-side MOSFET is forced to switch off until the capacitor is refreshed", 2 VIN (power) "Input supply voltage, 3.5 V to 28 V.", 3 EN (in) "Enable pin. Pull below 1.25V to disable. Float to enable. Programming the input undervoltage lockout with two resistors is recommended.", 4 SS (in) "Slow start pin. An external capacitor connected to this pin sets the output rise time.", 5 VSENSE (in) "Inverting node of the gm error amplifier.", 6 COMP "Error amplifier output, and input to the PWM comparator. Connect frequency compensation components to this pin.", 7 GND (power) "Ground", 8 PH (power) "The source of the internal high-side power MOSFET"

## TPS55340
designator U?
5A Current Mode Boost Converter with 2.9V to 32V Input; Value: TPS55340; Supplier 1: Mouser; Supplier Part Number 1: 595-TPS55340PWP
footprint SOP65P640X120_HS-15N (TSOP, 14-Leads, Body 5.00x4.40mm, Pitch 0.65mm, Thermal Pad 2.31.2x2.46.2mm, IPC Medium Density)
pins: 1 SW (power) "Switch pin", 2 SW (power) "Switch pin", 3 IN (power) "Input supply pin", 4 EN (in) "Shutdown control input. Connect this pin to logic high level to enable the device", 5 SS (in) "Soft-start control pin. Connect a capacitor to this pin if soft-start needed. Open = no soft-start", 6 SYNC "Switch frequency sync", 7 AGND (power) "Analog ground", 8 COMP "Compensation pin", 9 FB (in) "Feedback pin", 10 FREQ (in) "Frequency select pin. The power switch operates at 650 kHz if FREQ is connected to GND and at 1.2 MHz if FREQ is connected to IN", 11 NC "Reserved. Connect to ground", 12 PGND (power) "Power ground", 13 PGND (power) "Power ground", 14 PGND (power) "Power ground", 15 Pad (power) "Thermal pad"

## TPS61175
designator U?
3A Current Mode Boost Converter with 2.9V to 18V Input; Value: TPS61175; Supplier 1: Mouser; Supplier Part Number 1: 595-TPS61175PWPR
footprint TSOP65P640X120_HS-15N (TSOP, 14-Leads, Body 5.00x4.40mm, Pitch 0.65mm, Thermal Pad 2.31.2x2.46.2mm, IPC Medium Density)
pins: 1 SW (power) "Switch pin", 2 SW (power) "Switch pin", 3 IN (power) "Input supply pin", 4 EN (in) "Shutdown control input. Connect this pin to logic high level to enable the device", 5 SS (in) "Soft-start control pin. Connect a capacitor to this pin if soft-start needed. Open = no soft-start", 6 SYNC "Switch frequency sync", 7 AGND (power) "Analog ground", 8 COMP "Compensation pin", 9 FB (in) "Feedback pin", 10 FREQ (in) "Frequency select pin. The power switch operates at 650 kHz if FREQ is connected to GND and at 1.2 MHz if FREQ is connected to IN", 11 NC "Reserved. Connect to ground", 12 PGND (power) "Power ground", 13 PGND (power) "Power ground", 14 PGND (power) "Power ground", 15 Pad (power) "Thermal pad"

## TPS562209
designator U?
2A Buck Step Down Regulator 4.5V to 17V Input; Value: TPS562209; Supplier 1: Mouser; Supplier Part Number 1: 595-TPS562209DDCR
footprint SOT23-6PIN (SOT23, 6-Leads, Body 2.90x2.80mm, Pitch 0.95mm, IPC Medium Density)
pins: 1 GND (power), 2 SW (power), 3 VIN (power), 4 VBST (in), 5 EN (in), 6 VFB (in)

## WM8786
designator U?
24 Bit, 192 kHz, Stereo ADC; Value: WM8786
footprint SOP65P780X200-20N - duplicate (SOP, 20-Leads, Body 7.20x5.30mm, Pitch 0.65mm, IPC Medium Density)
pins: 1 AINL+, 2 AINL -, 3 VREFGND, 4 AVDD, 5 AGND, 6 LRCLK, 7 DOUT, 8 BCLK, 9 MCLK, 10 MSO, 11 AUDIOF0, 12 AUDIOF1, 13 OSR0, 14 OSR1, 15 DVDD, 16 DGND, 17 VMID, 18 VREF, 19 AINR-, 20 AINR+

## WM8804
designator WM8804
I2S to SPDIF converter; Value: WM8804
footprint SOP65P780X200-20N - duplicate (SOP, 20-Leads, Body 7.20x5.30mm, Pitch 0.65mm, IPC Medium Density)
pins: 1 SCLK, 2 SWIFMODE, 3 SDIN, 4 SDOUT, 5 CSB, 6 RESET, 7 PVDD, 8 PGND, 9 CLKOUT, 10 XOP, 11 XIN, 12 DOUT, 13 DIN, 14 BCLK, 15 LRCLK, 16 MCLK, 17 TX0, 18 DGND, 19 DVDD, 20 RX0